# EAGLE library part PACK-TPS6S300 (library texas-usbc)
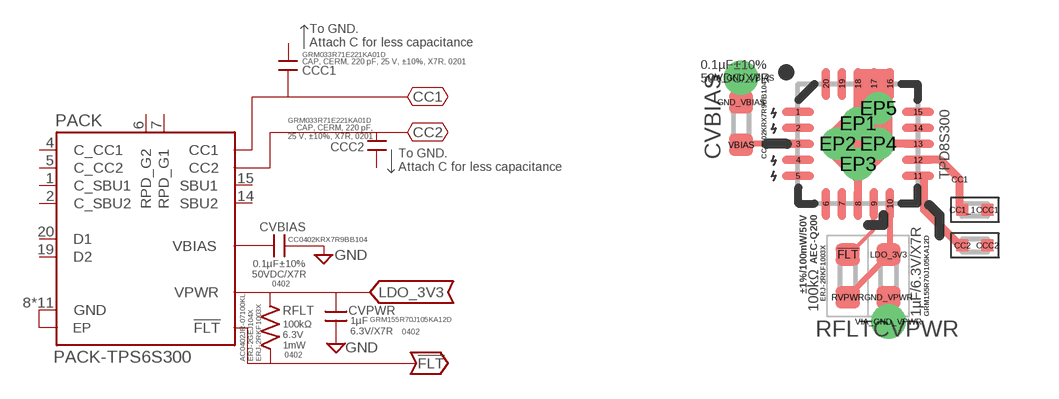
[diagram p3: symbol with the pads of PACK-TPD6S300; footprint PACK-TPD6S300]

Designator prefix PACK

## PACK-TPS6S300  [PACK-TPD6S300]
1  C_SBU1
2  C_SBU2
4  C_CC1
5  C_CC2
6  RPD_G2
7  RPD_G1
8  GND
14  SBU2
15  SBU1
16  GND
17  GND
18  GND
19  D2
20  D1
!FLT  !FLT  out
CC1  CC1
CC2  CC2
CCC1  CCC1
CCC2  CCC2
EP1  GND
EP2  GND
EP3  GND
EP4  GND
EP5  GND
GND_VBIAS  GND
GND_VPWR  GND
LDO_3V3  LDO_3V3  pwr

## Footprint PACK-TPD6S300 (pad centres in mm)
WQFN - 20 Pin Specifications: Pin count: 20 Datasheet referenced for footprint <http://www.ti.com/lit/ds/symlink/lp55231.pdf> Example device(s): LP55231
smd 0.8 x 0.2: 1 -1.5,0.8; 2 -1.5,0.4; 3 -1.5,0; 4 -1.5,-0.4; 5 -1.5,-0.8; 11 1.5,-0.8; 12 1.5,-0.4; 13 1.5,0; 14 1.5,0.4; 15 1.5,0.8
smd 0.2 x 0.8: 6 -0.8,-1.5; 7 -0.4,-1.5; 8 0,-1.5; 9 0.4,-1.5; 10 0.8,-1.5; 16 0.8,1.5; 17 0.4,1.5; 18 0,1.5; 19 -0.4,1.5; 20 -0.8,1.5
smd 0.61 x 0.559: !FLT -0.254,-2.769; GND_VBIAS -2.921,1.041; GND_VPWR 0.762,-3.835; LDO_3V3 0.762,-2.769; RVPWR -0.254,-3.835; VBIAS -2.921,-0.025
smd 0.203 x 0.203: CC1 2.54,-0.889
smd 0.325 x 0.3: CC1_1 2.608,-1.651; CC2 2.608,-2.54; CCC1 3.233,-1.651; CCC2 3.233,-2.54
drill 0.3 pad 0.406: EP1 0,0.508; EP2 -0.508,0; EP3 0,-0.508; EP4 0.508,0; EP5 0.508,0.889
drill 0.35 pad 0.61: VIA_GND_VBIAS -2.921,1.651; VIA_GND_VPWR 0.762,-4.445